# Altium integrated library Linear Technology Power Management Hot Swap Controllers.IntLib: 992 symbols (part 65 of 93)
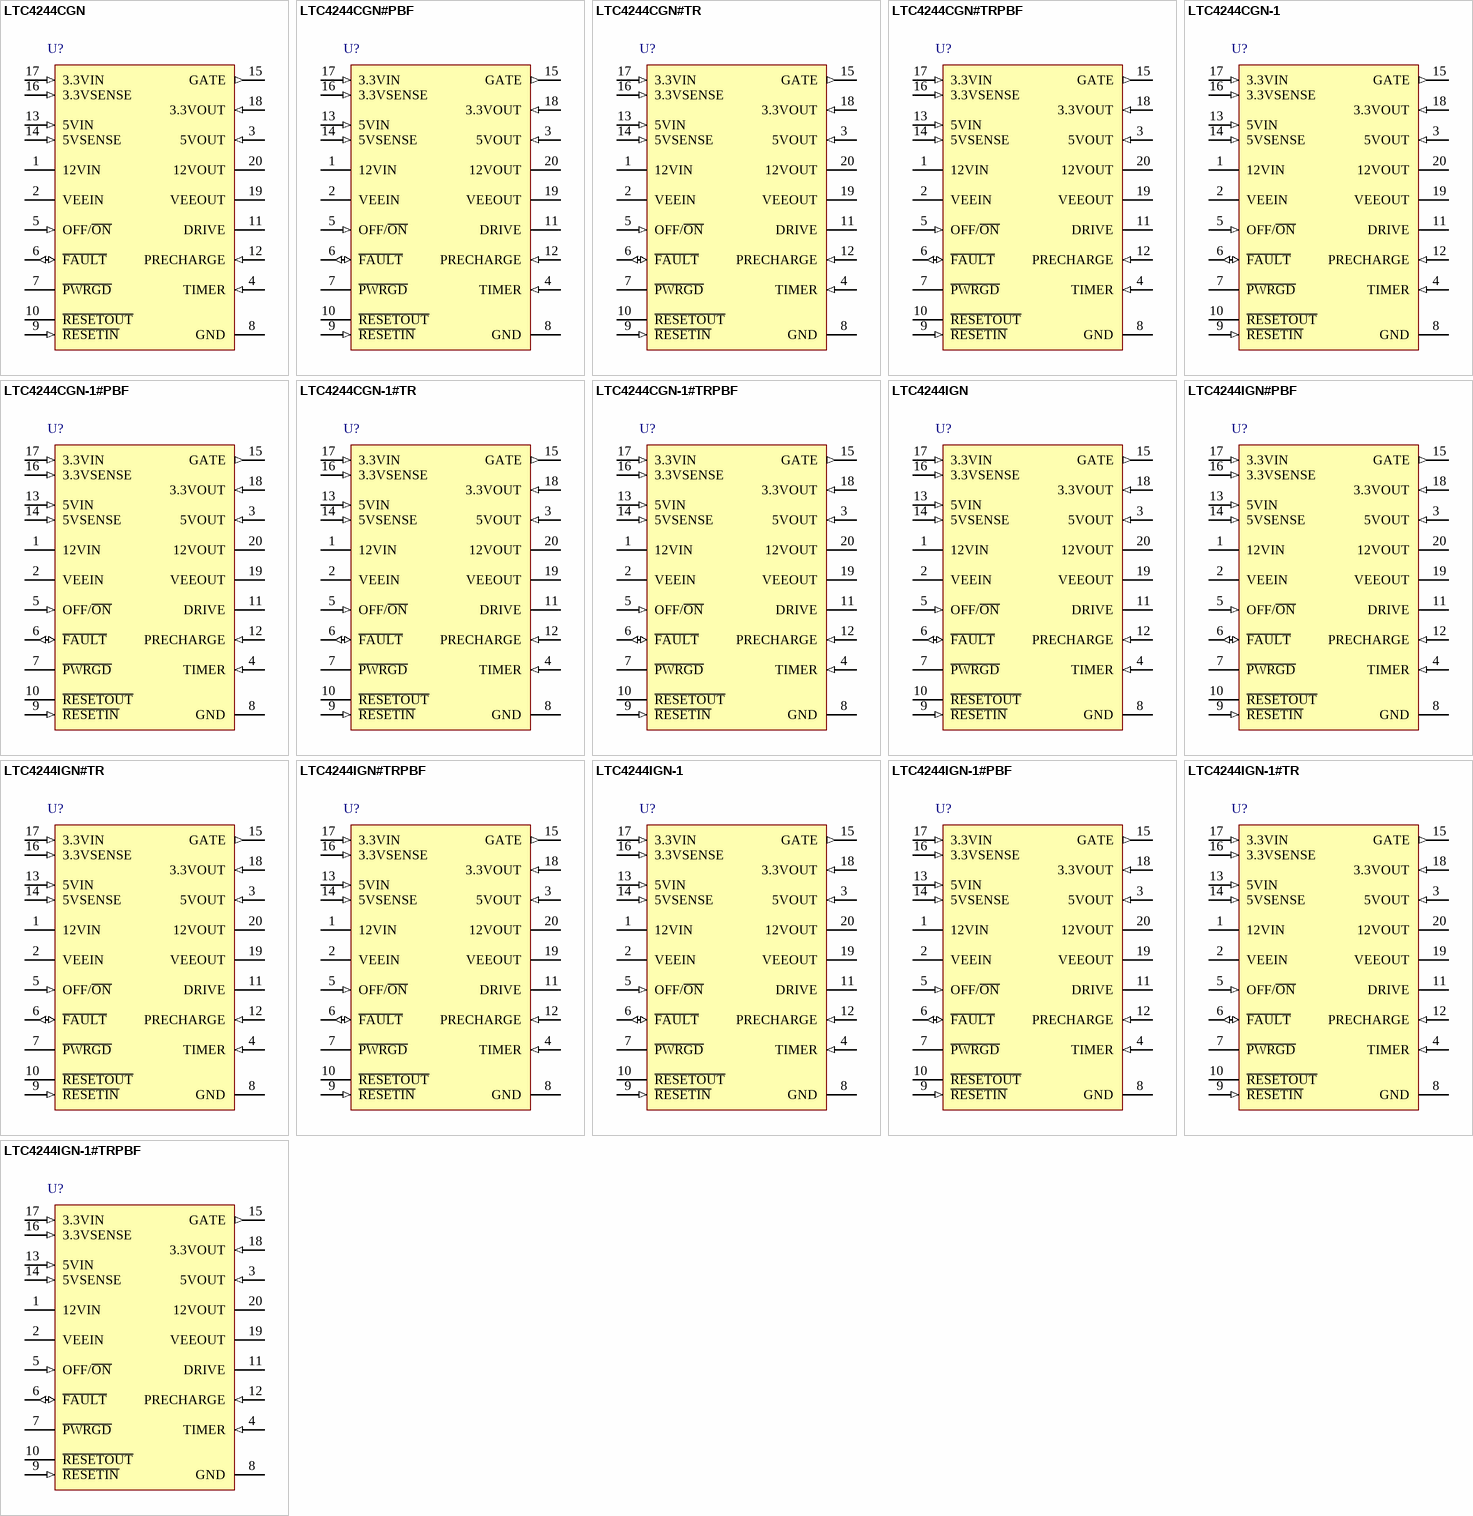
[diagram p101: symbols LTC4244CGN to LTC4244IGN-1#TRPBF]

## LTC4244IGN#TRPBF
designator U?
Rugged, Compact PCI Bus Hot Swap Controller, 3.3 V, 5 V, +/-12 V Vin, 20-pin SOP (GN-20), -40 to 85 degC, Pb-Free, Tape and Reel; Manufacturer: Linear Technology; PartNumber: LTC4244IGN#TRPBF; Active Limiting: yes; Circuit Breaker Accuracy(%): 14; Circuit Breaker Threshold: 52 mV; Circuit Breakers(#): 4; Extended Temp: C, I; Fast Comparator: no; In-Rush Current: Active; PackageVersion: Rev. B, 03/2012; PackageReference: GN-20; PackageDescription: 20-Pin Plastic SSOP, Body 8.649 x 3.899 mm, Pitch 0.635 mm; Supplier 1: Digi-Key; Supplier Part Number 1: LTC4244IGN#TRPBF-ND; Fault: yes; Foldback: yes; Packing: Tape and Reel; Power Good: yes; Reset: no; RoHS: TRUE; Vin Range: 3.3 V, 5 V, +/-12 V; Mounting Technology: Surface Mount; ComponentLink1Description: Manufacturer URL; ComponentLink1URL: http://www.linear.com/; ComponentLink2Description: Datasheet; ComponentLink2URL: http://cds.linear.com/docs/en/datasheet/42441f.pdf; ComponentLink3Description: Package Specification; ComponentLink3URL: http://cds.linear.com/docs/en/packaging/05081641_B_GN20.pdf
footprint LT-GN-20_N (SOP, 20-Leads, Body 8.7x4mm, Pitch 0.635mm, IPC Medium Density)
footprint LT-GN-20_L (SOP, 20-Leads, Body 8.7x4mm, Pitch 0.635mm, IPC High Density)
footprint LT-GN-20_M (SOP, 20-Leads, Body 8.7x4mm, Pitch 0.635mm, IPC Low Density)
pins: 1 12VIN (power) "12V Supply Input. A 0.5ohm switch is connected between 12VIN and 12VOUT with a foldback current limit. An undervoltage lockout circuit prevents the switches from turning on while the 12VIN pin voltage is less than 9V. 12VIN (See Datasheet)", 2 VEEIN (power) "-12V Supply Input. A 1ohm switch is connected between VEEIN and VEEOUT with a foldback current limit. An undervoltage lockout circuit prevents the switches from turning on while the VEEIN pin voltage is greater than -9.25V. (See Datasheet)", 3 5VOUT (in) "5V Output Sense. The P\W\R\G\D\ pin will not pull low until the 5VOUT pin voltage exceeds 4.61V. A 200ohm active pull-down discharges 5VOUT to ground when the power switches are turned off.", 4 TIMER (in) "Current Fault Inhibit Timing Input and Auxiliary VCC. Connect a capacitor from TIMER to GND. When the LTC4244 is turned on, a 21uA pull-up current source is connected to TIMER. Current limit faults will be ignored until the (See Datasheet)", 5 OFF/~{ON} (in) "Digital Input. Connect the CPCI BD_SEL# signal to the OFF/O\N\ pin. When the OFF/O\N\ pin is pulled low, the GATE pin is pulled high by a 67uA current source and the internal 12V and -12V switches are turned on. When the (See Datasheet)", 6 ~{FAULT} (io) "Open-Drain Digital I/O. F\A\U\L\T\ is pulled low when a current limit fault is detected. Current limit faults are ignored until the voltage at the TIMER pin is within 1.6V of 12VIN. Once the TIMER cycle is complete, (See Datasheet)", 7 ~{PWRGD} (oc) "Open-Drain Digital Power Good Output. Connect the CPCI HEALTHY# signal to the P\W\R\G\D\ pin. P\W\R\G\D\ remains low while V12VOUT >= 11.1V, V3.3VOUT >= 2.9V, V5VOUT >= 4.61V, and VEEOUT=< -11.1V. When any of the supplies (See Datasheet)", 8 GND (power) "Device Ground.", 9 ~{RESETIN} (in) "Digital Input. Connect the CPCI PCI_RST# signal to the R\E\S\E\T\I\N\ pin. Pulling the R\E\S\E\T\I\N\ pin low will cause R\E\S\E\T\O\U\T\ to pull low. R\E\S\E\T\O\U\T\ will also pull low when P\W\R\G\D\ is high.", 10 ~{RESETOUT} (oc) "Open-Drain Digital Output. Connect the CPCI_LOCAL_RST# signal to the R\E\S\E\T\O\U\T\ pin. R\E\S\E\T\O\U\T\ is the logical combination of the R\E\S\E\T\I\N\ and P\W\R\G\D\.", 11 DRIVE (oc) "Precharge Base Drive Output. Provides base drive for an external NPN emitter-follower that in turn biases the PRECHARGE node.", 12 PRECHARGE (in) "Precharge Monitor Input. An internal error amplifier servos the DRIVE pin voltage to keep the PRECHARGE node at 1V. See Applications Information for generating voltages other than 1V. If not used, tie the PRECHARGE pin to (See Datasheet)", 13 5VIN (in) "5V Supply Sense Input. An undervoltage lockout circuit prevents the switches from turning on when the voltage at the 5VIN pin is less than 4.25V.", 14 5VSENSE (in) "5V Current Limit Sense. With a sense resistor placed in the supply path between 5VIN and 5VSENSE, the GATE pin voltage will be adjusted to maintain a constant 51mV across the sense resistor and a constant current through the (See Datasheet)", 15 GATE (out) "High Side Gate Drive for the External 3.3V and 5V N-Channel Pass Transistors. An external series RC network is required for current limit loop compensation and setting the minimum ramp-up time. During power-up, the slope of (See Datasheet)", 16 3.3VSENSE (in) "3.3V Current Limit Sense. With a sense resistor placed in the supply path between 3.3VIN and 3.3VSENSE, the GATE pin voltage will be adjusted to maintain a constant 51mV across the sense resistor and a constant current (See Datasheet)", 17 3.3VIN (in) "3.3V Supply Sense Input. An undervoltage lockout circuit prevents the switches from turning on when the voltage at the 3.3VIN pin is less than 2.5V. If no 3.3V input supply is available, short the 3.3VIN pin to the 5VIN pin.", 18 3.3VOUT (in) "Analog Input Used to Monitor the 3.3V Output Supply Voltage. The P\W\R\G\D\ pin cannot pull low until the 3.3VOUT pin voltage exceeds 2.9V. If no 3.3V input supply is available, tie the 3.3VOUT pin to the 5VOUT pin. A 200ohm (See Datasheet)", 19 VEEOUT (power) "12V Supply Output. A 1ohm switch is connected between VEEIN and VEEOUT. VEEOUT must be less than -11.1V before the P\W\R\G\D\ pin pulls low. The VEEOUT power good comparator is disabled for the LTC4244-1. A390ohm active (See Datasheet)", 20 12VOUT (power) "12V Supply Output. A 0.5ohm switch is connected between 12VIN and 12VOUT. 12VOUT must exceed 11.1V before the P\W\R\G\D\ pin can pull low. A 440ohm active pull-down discharges 12VOUT to ground when the power switches are (See Datasheet)"

## LTC4244IGN-1
designator U?
Rugged, Compact PCI Bus Hot Swap Controller, 3.3 V, 5 V, +/-12 V Vin, 20-pin SOP (GN-20), -40 to 85 degC; Manufacturer: Linear Technology; PartNumber: LTC4244IGN-1; Active Limiting: yes; Circuit Breaker Accuracy(%): 14; Circuit Breaker Threshold: 52 mV; Circuit Breakers(#): 4; Extended Temp: C, I; Fast Comparator: no; In-Rush Current: Active; PackageVersion: Rev. B, 03/2012; PackageReference: GN-20; PackageDescription: 20-Pin Plastic SSOP, Body 8.649 x 3.899 mm, Pitch 0.635 mm; Supplier 1: Digi-Key; Supplier Part Number 1: LTC4244IGN-1-ND; Fault: yes; Foldback: yes; Power Good: yes; Reset: no; RoHS: FALSE; Vin Range: 3.3 V, 5 V, +/-12 V; Mounting Technology: Surface Mount; ComponentLink1Description: Manufacturer URL; ComponentLink1URL: http://www.linear.com/; ComponentLink2Description: Datasheet; ComponentLink2URL: http://cds.linear.com/docs/en/datasheet/42441f.pdf; ComponentLink3Description: Package Specification; ComponentLink3URL: http://cds.linear.com/docs/en/packaging/05081641_B_GN20.pdf
footprint LT-GN-20_N (SOP, 20-Leads, Body 8.7x4mm, Pitch 0.635mm, IPC Medium Density)
footprint LT-GN-20_L (SOP, 20-Leads, Body 8.7x4mm, Pitch 0.635mm, IPC High Density)
footprint LT-GN-20_M (SOP, 20-Leads, Body 8.7x4mm, Pitch 0.635mm, IPC Low Density)
pins: 1 12VIN (power) "12V Supply Input. A 0.5ohm switch is connected between 12VIN and 12VOUT with a foldback current limit. An undervoltage lockout circuit prevents the switches from turning on while the 12VIN pin voltage is less than 9V. 12VIN (See Datasheet)", 2 VEEIN (power) "-12V Supply Input. A 1ohm switch is connected between VEEIN and VEEOUT with a foldback current limit. An undervoltage lockout circuit prevents the switches from turning on while the VEEIN pin voltage is greater than -9.25V. (See Datasheet)", 3 5VOUT (in) "5V Output Sense. The P\W\R\G\D\ pin will not pull low until the 5VOUT pin voltage exceeds 4.61V. A 200ohm active pull-down discharges 5VOUT to ground when the power switches are turned off.", 4 TIMER (in) "Current Fault Inhibit Timing Input and Auxiliary VCC. Connect a capacitor from TIMER to GND. When the LTC4244 is turned on, a 21uA pull-up current source is connected to TIMER. Current limit faults will be ignored until the (See Datasheet)", 5 OFF/~{ON} (in) "Digital Input. Connect the CPCI BD_SEL# signal to the OFF/O\N\ pin. When the OFF/O\N\ pin is pulled low, the GATE pin is pulled high by a 67uA current source and the internal 12V and -12V switches are turned on. When the (See Datasheet)", 6 ~{FAULT} (io) "Open-Drain Digital I/O. F\A\U\L\T\ is pulled low when a current limit fault is detected. Current limit faults are ignored until the voltage at the TIMER pin is within 1.6V of 12VIN. Once the TIMER cycle is complete, (See Datasheet)", 7 ~{PWRGD} (oc) "Open-Drain Digital Power Good Output. Connect the CPCI HEALTHY# signal to the P\W\R\G\D\ pin. P\W\R\G\D\ remains low while V12VOUT >= 11.1V, V3.3VOUT >= 2.9V, V5VOUT >= 4.61V, and VEEOUT=< -11.1V. When any of the supplies (See Datasheet)", 8 GND (power) "Device Ground.", 9 ~{RESETIN} (in) "Digital Input. Connect the CPCI PCI_RST# signal to the R\E\S\E\T\I\N\ pin. Pulling the R\E\S\E\T\I\N\ pin low will cause R\E\S\E\T\O\U\T\ to pull low. R\E\S\E\T\O\U\T\ will also pull low when P\W\R\G\D\ is high.", 10 ~{RESETOUT} (oc) "Open-Drain Digital Output. Connect the CPCI_LOCAL_RST# signal to the R\E\S\E\T\O\U\T\ pin. R\E\S\E\T\O\U\T\ is the logical combination of the R\E\S\E\T\I\N\ and P\W\R\G\D\.", 11 DRIVE (oc) "Precharge Base Drive Output. Provides base drive for an external NPN emitter-follower that in turn biases the PRECHARGE node.", 12 PRECHARGE (in) "Precharge Monitor Input. An internal error amplifier servos the DRIVE pin voltage to keep the PRECHARGE node at 1V. See Applications Information for generating voltages other than 1V. If not used, tie the PRECHARGE pin to (See Datasheet)", 13 5VIN (in) "5V Supply Sense Input. An undervoltage lockout circuit prevents the switches from turning on when the voltage at the 5VIN pin is less than 4.25V.", 14 5VSENSE (in) "5V Current Limit Sense. With a sense resistor placed in the supply path between 5VIN and 5VSENSE, the GATE pin voltage will be adjusted to maintain a constant 51mV across the sense resistor and a constant current through the (See Datasheet)", 15 GATE (out) "High Side Gate Drive for the External 3.3V and 5V N-Channel Pass Transistors. An external series RC network is required for current limit loop compensation and setting the minimum ramp-up time. During power-up, the slope of (See Datasheet)", 16 3.3VSENSE (in) "3.3V Current Limit Sense. With a sense resistor placed in the supply path between 3.3VIN and 3.3VSENSE, the GATE pin voltage will be adjusted to maintain a constant 51mV across the sense resistor and a constant current (See Datasheet)", 17 3.3VIN (in) "3.3V Supply Sense Input. An undervoltage lockout circuit prevents the switches from turning on when the voltage at the 3.3VIN pin is less than 2.5V. If no 3.3V input supply is available, short the 3.3VIN pin to the 5VIN pin.", 18 3.3VOUT (in) "Analog Input Used to Monitor the 3.3V Output Supply Voltage. The P\W\R\G\D\ pin cannot pull low until the 3.3VOUT pin voltage exceeds 2.9V. If no 3.3V input supply is available, tie the 3.3VOUT pin to the 5VOUT pin. A 200ohm (See Datasheet)", 19 VEEOUT (power) "12V Supply Output. A 1ohm switch is connected between VEEIN and VEEOUT. VEEOUT must be less than -11.1V before the P\W\R\G\D\ pin pulls low. The VEEOUT power good comparator is disabled for the LTC4244-1. A390ohm active (See Datasheet)", 20 12VOUT (power) "12V Supply Output. A 0.5ohm switch is connected between 12VIN and 12VOUT. 12VOUT must exceed 11.1V before the P\W\R\G\D\ pin can pull low. A 440ohm active pull-down discharges 12VOUT to ground when the power switches are (See Datasheet)"

## LTC4244IGN-1#PBF
designator U?
Rugged, Compact PCI Bus Hot Swap Controller, 3.3 V, 5 V, +/-12 V Vin, 20-pin SOP (GN-20), -40 to 85 degC, Pb-Free; Manufacturer: Linear Technology; PartNumber: LTC4244IGN-1#PBF; Active Limiting: yes; Circuit Breaker Accuracy(%): 14; Circuit Breaker Threshold: 52 mV; Circuit Breakers(#): 4; Extended Temp: C, I; Fast Comparator: no; In-Rush Current: Active; PackageVersion: Rev. B, 03/2012; PackageReference: GN-20; PackageDescription: 20-Pin Plastic SSOP, Body 8.649 x 3.899 mm, Pitch 0.635 mm; Supplier 1: Digi-Key; Supplier Part Number 1: LTC4244IGN-1#PBF-ND; Supplier 2: Newark; Supplier Part Number 2: 56M8929; Fault: yes; Foldback: yes; Power Good: yes; Reset: no; RoHS: TRUE; Vin Range: 3.3 V, 5 V, +/-12 V; Mounting Technology: Surface Mount; ComponentLink1Description: Manufacturer URL; ComponentLink1URL: http://www.linear.com/; ComponentLink2Description: Datasheet; ComponentLink2URL: http://cds.linear.com/docs/en/datasheet/42441f.pdf; ComponentLink3Description: Package Specification; ComponentLink3URL: http://cds.linear.com/docs/en/packaging/05081641_B_GN20.pdf
footprint LT-GN-20_N (SOP, 20-Leads, Body 8.7x4mm, Pitch 0.635mm, IPC Medium Density)
footprint LT-GN-20_L (SOP, 20-Leads, Body 8.7x4mm, Pitch 0.635mm, IPC High Density)
footprint LT-GN-20_M (SOP, 20-Leads, Body 8.7x4mm, Pitch 0.635mm, IPC Low Density)
pins: 1 12VIN (power) "12V Supply Input. A 0.5ohm switch is connected between 12VIN and 12VOUT with a foldback current limit. An undervoltage lockout circuit prevents the switches from turning on while the 12VIN pin voltage is less than 9V. 12VIN (See Datasheet)", 2 VEEIN (power) "-12V Supply Input. A 1ohm switch is connected between VEEIN and VEEOUT with a foldback current limit. An undervoltage lockout circuit prevents the switches from turning on while the VEEIN pin voltage is greater than -9.25V. (See Datasheet)", 3 5VOUT (in) "5V Output Sense. The P\W\R\G\D\ pin will not pull low until the 5VOUT pin voltage exceeds 4.61V. A 200ohm active pull-down discharges 5VOUT to ground when the power switches are turned off.", 4 TIMER (in) "Current Fault Inhibit Timing Input and Auxiliary VCC. Connect a capacitor from TIMER to GND. When the LTC4244 is turned on, a 21uA pull-up current source is connected to TIMER. Current limit faults will be ignored until the (See Datasheet)", 5 OFF/~{ON} (in) "Digital Input. Connect the CPCI BD_SEL# signal to the OFF/O\N\ pin. When the OFF/O\N\ pin is pulled low, the GATE pin is pulled high by a 67uA current source and the internal 12V and -12V switches are turned on. When the (See Datasheet)", 6 ~{FAULT} (io) "Open-Drain Digital I/O. F\A\U\L\T\ is pulled low when a current limit fault is detected. Current limit faults are ignored until the voltage at the TIMER pin is within 1.6V of 12VIN. Once the TIMER cycle is complete, (See Datasheet)", 7 ~{PWRGD} (oc) "Open-Drain Digital Power Good Output. Connect the CPCI HEALTHY# signal to the P\W\R\G\D\ pin. P\W\R\G\D\ remains low while V12VOUT >= 11.1V, V3.3VOUT >= 2.9V, V5VOUT >= 4.61V, and VEEOUT=< -11.1V. When any of the supplies (See Datasheet)", 8 GND (power) "Device Ground.", 9 ~{RESETIN} (in) "Digital Input. Connect the CPCI PCI_RST# signal to the R\E\S\E\T\I\N\ pin. Pulling the R\E\S\E\T\I\N\ pin low will cause R\E\S\E\T\O\U\T\ to pull low. R\E\S\E\T\O\U\T\ will also pull low when P\W\R\G\D\ is high.", 10 ~{RESETOUT} (oc) "Open-Drain Digital Output. Connect the CPCI_LOCAL_RST# signal to the R\E\S\E\T\O\U\T\ pin. R\E\S\E\T\O\U\T\ is the logical combination of the R\E\S\E\T\I\N\ and P\W\R\G\D\.", 11 DRIVE (oc) "Precharge Base Drive Output. Provides base drive for an external NPN emitter-follower that in turn biases the PRECHARGE node.", 12 PRECHARGE (in) "Precharge Monitor Input. An internal error amplifier servos the DRIVE pin voltage to keep the PRECHARGE node at 1V. See Applications Information for generating voltages other than 1V. If not used, tie the PRECHARGE pin to (See Datasheet)", 13 5VIN (in) "5V Supply Sense Input. An undervoltage lockout circuit prevents the switches from turning on when the voltage at the 5VIN pin is less than 4.25V.", 14 5VSENSE (in) "5V Current Limit Sense. With a sense resistor placed in the supply path between 5VIN and 5VSENSE, the GATE pin voltage will be adjusted to maintain a constant 51mV across the sense resistor and a constant current through the (See Datasheet)", 15 GATE (out) "High Side Gate Drive for the External 3.3V and 5V N-Channel Pass Transistors. An external series RC network is required for current limit loop compensation and setting the minimum ramp-up time. During power-up, the slope of (See Datasheet)", 16 3.3VSENSE (in) "3.3V Current Limit Sense. With a sense resistor placed in the supply path between 3.3VIN and 3.3VSENSE, the GATE pin voltage will be adjusted to maintain a constant 51mV across the sense resistor and a constant current (See Datasheet)", 17 3.3VIN (in) "3.3V Supply Sense Input. An undervoltage lockout circuit prevents the switches from turning on when the voltage at the 3.3VIN pin is less than 2.5V. If no 3.3V input supply is available, short the 3.3VIN pin to the 5VIN pin.", 18 3.3VOUT (in) "Analog Input Used to Monitor the 3.3V Output Supply Voltage. The P\W\R\G\D\ pin cannot pull low until the 3.3VOUT pin voltage exceeds 2.9V. If no 3.3V input supply is available, tie the 3.3VOUT pin to the 5VOUT pin. A 200ohm (See Datasheet)", 19 VEEOUT (power) "12V Supply Output. A 1ohm switch is connected between VEEIN and VEEOUT. VEEOUT must be less than -11.1V before the P\W\R\G\D\ pin pulls low. The VEEOUT power good comparator is disabled for the LTC4244-1. A390ohm active (See Datasheet)", 20 12VOUT (power) "12V Supply Output. A 0.5ohm switch is connected between 12VIN and 12VOUT. 12VOUT must exceed 11.1V before the P\W\R\G\D\ pin can pull low. A 440ohm active pull-down discharges 12VOUT to ground when the power switches are (See Datasheet)"

## LTC4244IGN-1#TR
designator U?
Rugged, Compact PCI Bus Hot Swap Controller, 3.3 V, 5 V, +/-12 V Vin, 20-pin SOP (GN-20), -40 to 85 degC, Tape and Reel; Manufacturer: Linear Technology; PartNumber: LTC4244IGN-1#TR; Active Limiting: yes; Circuit Breaker Accuracy(%): 14; Circuit Breaker Threshold: 52 mV; Circuit Breakers(#): 4; Extended Temp: C, I; Fast Comparator: no; In-Rush Current: Active; PackageVersion: Rev. B, 03/2012; PackageReference: GN-20; PackageDescription: 20-Pin Plastic SSOP, Body 8.649 x 3.899 mm, Pitch 0.635 mm; Supplier 1: Digi-Key; Supplier Part Number 1: LTC4244IGN-1#TR-ND; Fault: yes; Foldback: yes; Packing: Tape and Reel; Power Good: yes; Reset: no; RoHS: FALSE; Vin Range: 3.3 V, 5 V, +/-12 V; Mounting Technology: Surface Mount; ComponentLink1Description: Manufacturer URL; ComponentLink1URL: http://www.linear.com/; ComponentLink2Description: Datasheet; ComponentLink2URL: http://cds.linear.com/docs/en/datasheet/42441f.pdf; ComponentLink3Description: Package Specification; ComponentLink3URL: http://cds.linear.com/docs/en/packaging/05081641_B_GN20.pdf
footprint LT-GN-20_N (SOP, 20-Leads, Body 8.7x4mm, Pitch 0.635mm, IPC Medium Density)
footprint LT-GN-20_L (SOP, 20-Leads, Body 8.7x4mm, Pitch 0.635mm, IPC High Density)
footprint LT-GN-20_M (SOP, 20-Leads, Body 8.7x4mm, Pitch 0.635mm, IPC Low Density)
pins: 1 12VIN (power) "12V Supply Input. A 0.5ohm switch is connected between 12VIN and 12VOUT with a foldback current limit. An undervoltage lockout circuit prevents the switches from turning on while the 12VIN pin voltage is less than 9V. 12VIN (See Datasheet)", 2 VEEIN (power) "-12V Supply Input. A 1ohm switch is connected between VEEIN and VEEOUT with a foldback current limit. An undervoltage lockout circuit prevents the switches from turning on while the VEEIN pin voltage is greater than -9.25V. (See Datasheet)", 3 5VOUT (in) "5V Output Sense. The P\W\R\G\D\ pin will not pull low until the 5VOUT pin voltage exceeds 4.61V. A 200ohm active pull-down discharges 5VOUT to ground when the power switches are turned off.", 4 TIMER (in) "Current Fault Inhibit Timing Input and Auxiliary VCC. Connect a capacitor from TIMER to GND. When the LTC4244 is turned on, a 21uA pull-up current source is connected to TIMER. Current limit faults will be ignored until the (See Datasheet)", 5 OFF/~{ON} (in) "Digital Input. Connect the CPCI BD_SEL# signal to the OFF/O\N\ pin. When the OFF/O\N\ pin is pulled low, the GATE pin is pulled high by a 67uA current source and the internal 12V and -12V switches are turned on. When the (See Datasheet)", 6 ~{FAULT} (io) "Open-Drain Digital I/O. F\A\U\L\T\ is pulled low when a current limit fault is detected. Current limit faults are ignored until the voltage at the TIMER pin is within 1.6V of 12VIN. Once the TIMER cycle is complete, (See Datasheet)", 7 ~{PWRGD} (oc) "Open-Drain Digital Power Good Output. Connect the CPCI HEALTHY# signal to the P\W\R\G\D\ pin. P\W\R\G\D\ remains low while V12VOUT >= 11.1V, V3.3VOUT >= 2.9V, V5VOUT >= 4.61V, and VEEOUT=< -11.1V. When any of the supplies (See Datasheet)", 8 GND (power) "Device Ground.", 9 ~{RESETIN} (in) "Digital Input. Connect the CPCI PCI_RST# signal to the R\E\S\E\T\I\N\ pin. Pulling the R\E\S\E\T\I\N\ pin low will cause R\E\S\E\T\O\U\T\ to pull low. R\E\S\E\T\O\U\T\ will also pull low when P\W\R\G\D\ is high.", 10 ~{RESETOUT} (oc) "Open-Drain Digital Output. Connect the CPCI_LOCAL_RST# signal to the R\E\S\E\T\O\U\T\ pin. R\E\S\E\T\O\U\T\ is the logical combination of the R\E\S\E\T\I\N\ and P\W\R\G\D\.", 11 DRIVE (oc) "Precharge Base Drive Output. Provides base drive for an external NPN emitter-follower that in turn biases the PRECHARGE node.", 12 PRECHARGE (in) "Precharge Monitor Input. An internal error amplifier servos the DRIVE pin voltage to keep the PRECHARGE node at 1V. See Applications Information for generating voltages other than 1V. If not used, tie the PRECHARGE pin to (See Datasheet)", 13 5VIN (in) "5V Supply Sense Input. An undervoltage lockout circuit prevents the switches from turning on when the voltage at the 5VIN pin is less than 4.25V.", 14 5VSENSE (in) "5V Current Limit Sense. With a sense resistor placed in the supply path between 5VIN and 5VSENSE, the GATE pin voltage will be adjusted to maintain a constant 51mV across the sense resistor and a constant current through the (See Datasheet)", 15 GATE (out) "High Side Gate Drive for the External 3.3V and 5V N-Channel Pass Transistors. An external series RC network is required for current limit loop compensation and setting the minimum ramp-up time. During power-up, the slope of (See Datasheet)", 16 3.3VSENSE (in) "3.3V Current Limit Sense. With a sense resistor placed in the supply path between 3.3VIN and 3.3VSENSE, the GATE pin voltage will be adjusted to maintain a constant 51mV across the sense resistor and a constant current (See Datasheet)", 17 3.3VIN (in) "3.3V Supply Sense Input. An undervoltage lockout circuit prevents the switches from turning on when the voltage at the 3.3VIN pin is less than 2.5V. If no 3.3V input supply is available, short the 3.3VIN pin to the 5VIN pin.", 18 3.3VOUT (in) "Analog Input Used to Monitor the 3.3V Output Supply Voltage. The P\W\R\G\D\ pin cannot pull low until the 3.3VOUT pin voltage exceeds 2.9V. If no 3.3V input supply is available, tie the 3.3VOUT pin to the 5VOUT pin. A 200ohm (See Datasheet)", 19 VEEOUT (power) "12V Supply Output. A 1ohm switch is connected between VEEIN and VEEOUT. VEEOUT must be less than -11.1V before the P\W\R\G\D\ pin pulls low. The VEEOUT power good comparator is disabled for the LTC4244-1. A390ohm active (See Datasheet)", 20 12VOUT (power) "12V Supply Output. A 0.5ohm switch is connected between 12VIN and 12VOUT. 12VOUT must exceed 11.1V before the P\W\R\G\D\ pin can pull low. A 440ohm active pull-down discharges 12VOUT to ground when the power switches are (See Datasheet)"

## LTC4244IGN-1#TRPBF
designator U?
Rugged, Compact PCI Bus Hot Swap Controller, 3.3 V, 5 V, +/-12 V Vin, 20-pin SOP (GN-20), -40 to 85 degC, Pb-Free, Tape and Reel; Manufacturer: Linear Technology; PartNumber: LTC4244IGN-1#TRPBF; Active Limiting: yes; Circuit Breaker Accuracy(%): 14; Circuit Breaker Threshold: 52 mV; Circuit Breakers(#): 4; Extended Temp: C, I; Fast Comparator: no; In-Rush Current: Active; PackageVersion: Rev. B, 03/2012; PackageReference: GN-20; PackageDescription: 20-Pin Plastic SSOP, Body 8.649 x 3.899 mm, Pitch 0.635 mm; Supplier 1: Digi-Key; Supplier Part Number 1: LTC4244IGN-1#TRPBF-ND; Fault: yes; Foldback: yes; Packing: Tape and Reel; Power Good: yes; Reset: no; RoHS: TRUE; Vin Range: 3.3 V, 5 V, +/-12 V; Mounting Technology: Surface Mount; ComponentLink1Description: Manufacturer URL; ComponentLink1URL: http://www.linear.com/; ComponentLink2Description: Datasheet; ComponentLink2URL: http://cds.linear.com/docs/en/datasheet/42441f.pdf; ComponentLink3Description: Package Specification; ComponentLink3URL: http://cds.linear.com/docs/en/packaging/05081641_B_GN20.pdf
footprint LT-GN-20_N (SOP, 20-Leads, Body 8.7x4mm, Pitch 0.635mm, IPC Medium Density)
footprint LT-GN-20_L (SOP, 20-Leads, Body 8.7x4mm, Pitch 0.635mm, IPC High Density)
footprint LT-GN-20_M (SOP, 20-Leads, Body 8.7x4mm, Pitch 0.635mm, IPC Low Density)
pins: 1 12VIN (power) "12V Supply Input. A 0.5ohm switch is connected between 12VIN and 12VOUT with a foldback current limit. An undervoltage lockout circuit prevents the switches from turning on while the 12VIN pin voltage is less than 9V. 12VIN (See Datasheet)", 2 VEEIN (power) "-12V Supply Input. A 1ohm switch is connected between VEEIN and VEEOUT with a foldback current limit. An undervoltage lockout circuit prevents the switches from turning on while the VEEIN pin voltage is greater than -9.25V. (See Datasheet)", 3 5VOUT (in) "5V Output Sense. The P\W\R\G\D\ pin will not pull low until the 5VOUT pin voltage exceeds 4.61V. A 200ohm active pull-down discharges 5VOUT to ground when the power switches are turned off.", 4 TIMER (in) "Current Fault Inhibit Timing Input and Auxiliary VCC. Connect a capacitor from TIMER to GND. When the LTC4244 is turned on, a 21uA pull-up current source is connected to TIMER. Current limit faults will be ignored until the (See Datasheet)", 5 OFF/~{ON} (in) "Digital Input. Connect the CPCI BD_SEL# signal to the OFF/O\N\ pin. When the OFF/O\N\ pin is pulled low, the GATE pin is pulled high by a 67uA current source and the internal 12V and -12V switches are turned on. When the (See Datasheet)", 6 ~{FAULT} (io) "Open-Drain Digital I/O. F\A\U\L\T\ is pulled low when a current limit fault is detected. Current limit faults are ignored until the voltage at the TIMER pin is within 1.6V of 12VIN. Once the TIMER cycle is complete, (See Datasheet)", 7 ~{PWRGD} (oc) "Open-Drain Digital Power Good Output. Connect the CPCI HEALTHY# signal to the P\W\R\G\D\ pin. P\W\R\G\D\ remains low while V12VOUT >= 11.1V, V3.3VOUT >= 2.9V, V5VOUT >= 4.61V, and VEEOUT=< -11.1V. When any of the supplies (See Datasheet)", 8 GND (power) "Device Ground.", 9 ~{RESETIN} (in) "Digital Input. Connect the CPCI PCI_RST# signal to the R\E\S\E\T\I\N\ pin. Pulling the R\E\S\E\T\I\N\ pin low will cause R\E\S\E\T\O\U\T\ to pull low. R\E\S\E\T\O\U\T\ will also pull low when P\W\R\G\D\ is high.", 10 ~{RESETOUT} (oc) "Open-Drain Digital Output. Connect the CPCI_LOCAL_RST# signal to the R\E\S\E\T\O\U\T\ pin. R\E\S\E\T\O\U\T\ is the logical combination of the R\E\S\E\T\I\N\ and P\W\R\G\D\.", 11 DRIVE (oc) "Precharge Base Drive Output. Provides base drive for an external NPN emitter-follower that in turn biases the PRECHARGE node.", 12 PRECHARGE (in) "Precharge Monitor Input. An internal error amplifier servos the DRIVE pin voltage to keep the PRECHARGE node at 1V. See Applications Information for generating voltages other than 1V. If not used, tie the PRECHARGE pin to (See Datasheet)", 13 5VIN (in) "5V Supply Sense Input. An undervoltage lockout circuit prevents the switches from turning on when the voltage at the 5VIN pin is less than 4.25V.", 14 5VSENSE (in) "5V Current Limit Sense. With a sense resistor placed in the supply path between 5VIN and 5VSENSE, the GATE pin voltage will be adjusted to maintain a constant 51mV across the sense resistor and a constant current through the (See Datasheet)", 15 GATE (out) "High Side Gate Drive for the External 3.3V and 5V N-Channel Pass Transistors. An external series RC network is required for current limit loop compensation and setting the minimum ramp-up time. During power-up, the slope of (See Datasheet)", 16 3.3VSENSE (in) "3.3V Current Limit Sense. With a sense resistor placed in the supply path between 3.3VIN and 3.3VSENSE, the GATE pin voltage will be adjusted to maintain a constant 51mV across the sense resistor and a constant current (See Datasheet)", 17 3.3VIN (in) "3.3V Supply Sense Input. An undervoltage lockout circuit prevents the switches from turning on when the voltage at the 3.3VIN pin is less than 2.5V. If no 3.3V input supply is available, short the 3.3VIN pin to the 5VIN pin.", 18 3.3VOUT (in) "Analog Input Used to Monitor the 3.3V Output Supply Voltage. The P\W\R\G\D\ pin cannot pull low until the 3.3VOUT pin voltage exceeds 2.9V. If no 3.3V input supply is available, tie the 3.3VOUT pin to the 5VOUT pin. A 200ohm (See Datasheet)", 19 VEEOUT (power) "12V Supply Output. A 1ohm switch is connected between VEEIN and VEEOUT. VEEOUT must be less than -11.1V before the P\W\R\G\D\ pin pulls low. The VEEOUT power good comparator is disabled for the LTC4244-1. A390ohm active (See Datasheet)", 20 12VOUT (power) "12V Supply Output. A 0.5ohm switch is connected between 12VIN and 12VOUT. 12VOUT must exceed 11.1V before the P\W\R\G\D\ pin can pull low. A 440ohm active pull-down discharges 12VOUT to ground when the power switches are (See Datasheet)"

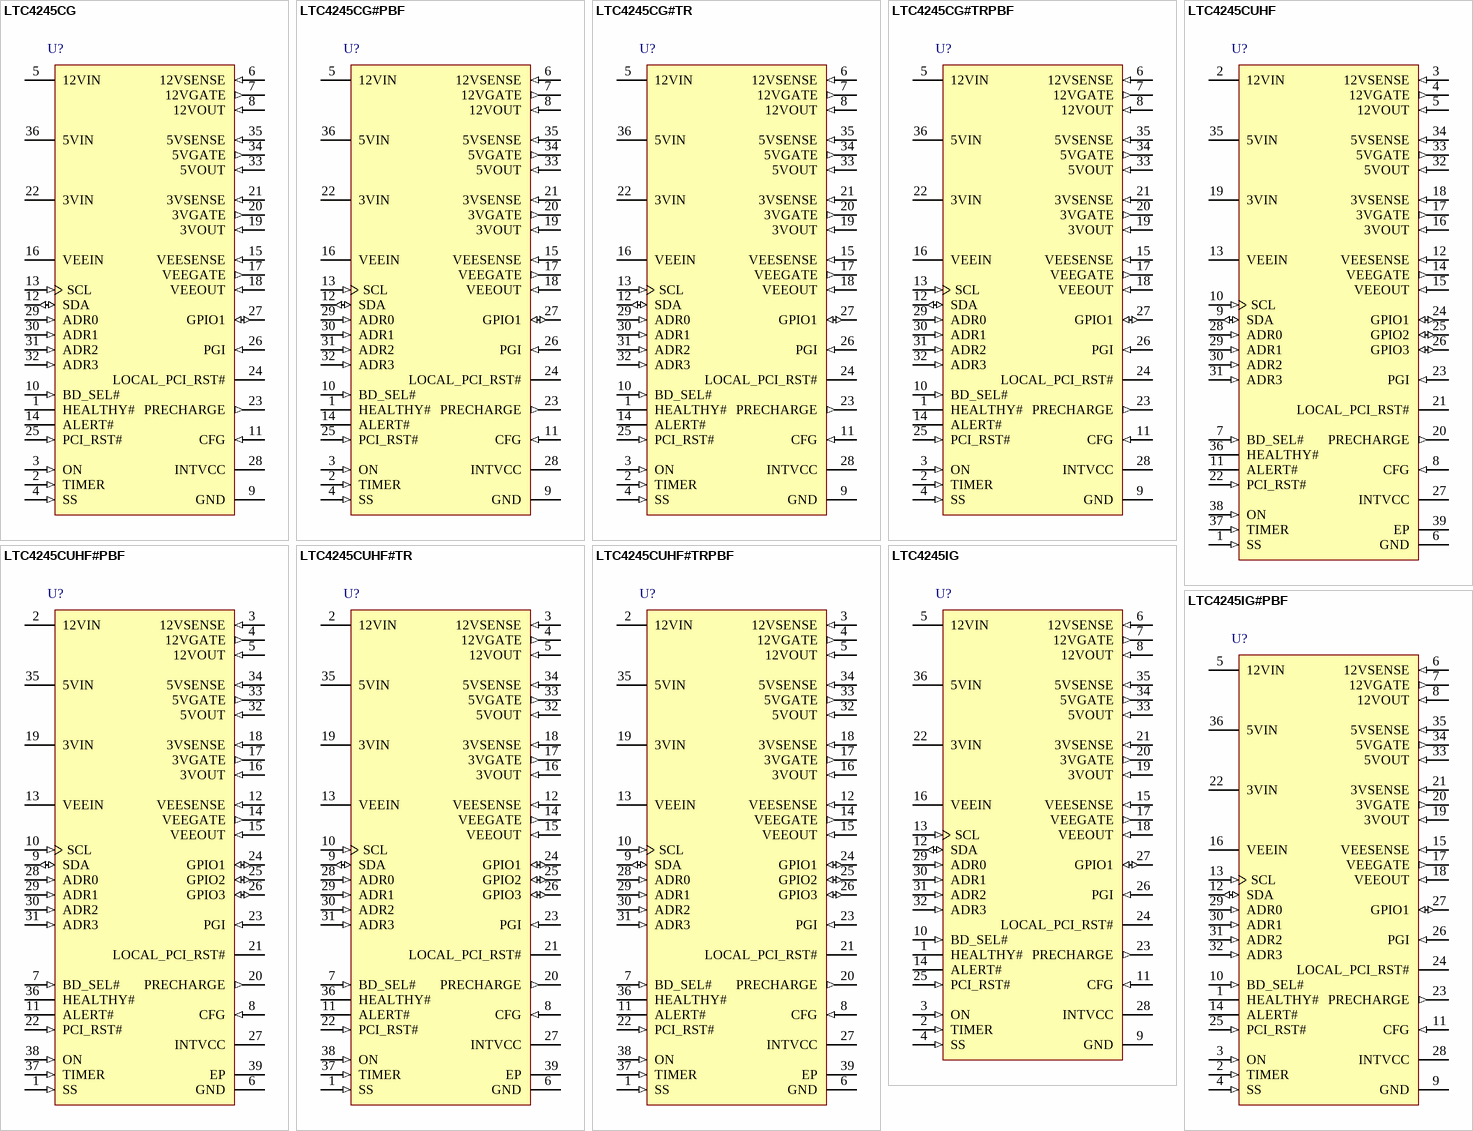
[diagram p27: symbols LTC4245CG to LTC4245IG#PBF]

## LTC4245CG
designator U?
Multiple Supply Hot Swap Controller with I2C Compatible Monitoring, 3.3 V, 5 V, +/-12 V Vin, 36-pin SOP (G-36), 0 to 70 degC; Manufacturer: Linear Technology; PartNumber: LTC4245CG; Active Limiting: yes; ADC: 8-bit; Circuit Breaker Accuracy(%): 10; Circuit Breaker Threshold: 25 mV (3.3,5), 50 mV (+/-12); Circuit Breakers(#): 4; Extended Temp: C, I; Fast Comparator: no; In-Rush Current: Active; Vin Range: 3.3, 5, +/-12 or 3.3, 12, 3.3 aux; DatasheetVersion: Rev. A; PackageReference: G-36; PackageDescription: 36-Pin Plastic SSOP, Body 12.8 x 5.3 mm, Pitch 0.65 mm; Fault: yes; Foldback: yes; Power Good: no; Reset: no; RoHS: FALSE; Mounting Technology: Surface Mount; ComponentLink1Description: Manufacturer URL; ComponentLink1URL: http://www.linear.com/; ComponentLink2Description: Datasheet; ComponentLink2URL: http://cds.linear.com/docs/en/datasheet/4245fa.pdf; ComponentLink3Description: Package Specification; ComponentLink3URL: http://cds.linear.com/docs/en/packaging/SSOP_36_05-08-1640.pdf
footprint LT-G-36_N (SOP, 36-Leads, Body 13.1x5.6mm, Pitch 0.65mm, IPC Medium Density)
footprint LT-G-36_L (SOP, 36-Leads, Body 13.1x5.6mm, Pitch 0.65mm, IPC High Density)
footprint LT-G-36_M (SOP, 36-Leads, Body 13.1x5.6mm, Pitch 0.65mm, IPC Low Density)
pins: 1 HEALTHY# (hiz) "Board Power Status Output. This pin is pulled low by an open-drain output when all supply outputs are above their power bad thresholds and when all external N-channel MOSFETs are on. When any supply output falls below its (See Datasheet)", 2 TIMER (in) "Timer Input. A capacitor between this pin and ground sets the duration of the start-up, PGI and auto-retry timing cycles to be 23.3ms/uF, 233ms/uF and 1.17s/uF respectively. A timing cycle consists of TIMER being charged to (See Datasheet)", 3 ON (in) "On Control Input. A rising edge turns on the external N-channel MOSFETs and a falling edge turns them off. This pin is also used to configure the state of the FET On control bits (and hence the external FETs) in the ON (See Datasheet)", 4 SS (in) "Soft-Start Input. Connect a capacitor between this pin and ground to set the rate of increase of current limit during start-up for dI/dt limited inrush current. When an external MOSFET is turned on, a 20uA pull-up current (See Datasheet)", 5 12VIN (power) "12V Supply, Current Sense and ADC Input. The internal low voltage supply VCC is generated from 12VIN. An undervoltage lockout circuit, with 38mV hysteresis, prevents any external MOSFET from turning on when this pin is below (See Datasheet)", 6 12VSENSE (in) "12V Supply Current Sense and ADC Input. Connect this pin to the output of the 12V current sense resistor. The current limit circuit controls the 12VGATE pin to limit the sense voltage between the 12VIN and 12VSENSE pins to (See Datasheet)", 7 12VGATE (out) "Gate Drive for 12V Supply External N-Channel MOSFET. An internal 20uA current source charges the gate of the external N-channel MOSFET. An internal clamp limits the gate voltage to 6.2V above 12VOUT. During turn-off a 1.3mA (See Datasheet)", 8 12VOUT (in) "12V Gate Drive Return; Foldback, ADC and Power Bad Input. Connect this pin to the source of the 12V supply external N-channel MOSFET switch for gate drive return. Power is considered bad if this pin drops below 11.1V. The (See Datasheet)", 9 GND (power) "Device Ground.", 10 BD_SEL# (in) "Board Present Input. Ground this pin to enable the N-channel MOSFETs to turn on. When this pin is high, the MOSFETs are off. An internal 10uA current source pulls up this pin to INTVCC. Transitions on this pin will be (See Datasheet)", 11 CFG (in) "Supply Confi guration Three-State Input. When this pin is grounded, all four supply inputs must satisfy their undervoltage lockout levels to allow the external MOSFETs to turn on. Floating this pin disables VEE undervoltage (See Datasheet)", 12 SDA (io) "Serial Bus Data Input and Output. This is a high impedance input when address, command or data bits are shifted in. It is an open-drain output when sending data back to the master controller or acknowledging a write (See Datasheet)", 13 SCL (in) "Serial Bus Clock Input. Data at the SDA pin is shifted in or out on rising edges of SCL. This is a high impedance pin that is generally driven by an open-collector output from a master controller.", 14 ALERT# (oc) "Fault Alert Output. Open-drain logic output that can be pulled to ground, when a fault occurs, to alert the host controller. A fault alert is enabled by the ALERT register. This device is compatible with SMBus alert protocol.(See Datasheet)", 15 VEESENSE (in) "-12V Supply Current Sense and ADC Input. Connect this pin to the output of the -12V current sense resistor. The current limit circuit controls the VEEGATE pin to limit the sense voltage between the VEESENSE and VEEIN pins to (See Datasheet)", 16 VEEIN (power) "-12V Supply, Current Sense and ADC Input. An undervoltage lockout circuit, with 38mV hysteresis, prevents any external MOSFET from turning on when this pin is above -10.5V. The VEEIN undervoltage lockout can be disabled by (See Datasheet)", 17 VEEGATE (out) "Gate Drive for -12V Supply External N-Channel MOSFET. An internal 20uA current source charges the gate of the external N-channel MOSFET. An internal clamp limits the gate voltage to 6.2V above VEEIN. During turn-off, a 3.5mA (See Datasheet)", 18 VEEOUT (in) "-12V Supply Foldback, ADC and Power Bad Input. Connect this pin to the drain of the -H497512V supply external N-channel MOSFET switch. Power is considered bad if this pin rises above -11.1V. The comparator on this pin has a (See Datasheet)", 19 3VOUT (in) "3.3V Gate Drive Return; Foldback, ADC and Power Bad Input. Connect this pin to the source of the 3.3V supply external N-channel MOSFET switch for gate drive return. Power is considered bad if this pin drops below 2.9V. The (See Datasheet)", 20 3VGATE (out) "Gate Drive for 3.3V Supply External N-Channel MOSFET. An internal 20uA current source charges the gate of the external N-channel MOSFET. An internal clamp limits the gate voltage to 6.2V above 3VOUT. During turn-off a 1.3mA (See Datasheet)", 21 3VSENSE (in) "3.3V Supply Current Sense and ADC Input. Connect this pin to the output of the 3.3V current sense resistor. The current limit circuit controls the 3VGATE pin to limit the sense voltage between the 3VIN and 3VSENSE pins to (See Datasheet)", 22 3VIN (power) "3.3V Supply, Current Sense and ADC Input. The 1V precharge circuit draws its power and reference voltage from 3VIN. An undervoltage lockout circuit, with 10mV hysteresis, prevents any external MOSFET from turning on when (See Datasheet)", 23 PRECHARGE (out) "Bus Precharge Output. This pin can source 70mA at 1V as soon as 3VIN is powered-up. Leave it open if unused.", 24 LOCAL_PCI_RST# (oc) "Reset Output. This pin is pulled low by an open-drain output whenever HEALTHY# is high or when the PCI_RST# input is low. Tie to ground if unused.", 25 PCI_RST# (in) "Reset Input. Pulling this pin low causes LOCAL_PCI_RST# to pull low. When high, LOCAL_PCI_RST# is the logical inverse of HEALTHY#. Tie to INTVCC if unused.", 26 PGI (in) "Power Good Input. Tie this pin to the R\E\S\E\T\ output of an external supply monitor or power good output of a DC/DC converter. When all supplies have been turned on, a timing cycle is started at the end of which the PGI (See Datasheet)", 27 GPIO1 (io) "General Purpose Input/Output and ADC Input. Open-drain logic outputs and logic inputs. Any one of the three pins can be multiplexed to the GPIO channel of the internal ADC. GPIO1 has a state change fault associated with it. (See Datasheet)", 28 INTVCC (power) "Internal Low Voltage Supply Decoupling Output. Connect a 0.1uF capacitor from this pin to ground. When this pin falls below 3.8V, the internal registers are reset.", 29 ADR0 (in) "Serial Bus Address Inputs. ADR0 and ADR1 are two-state inputs; ADR2 and ADR3 are threestate inputs. Tying these pins to ground, open or INTVCC configures one of 32 possible addresses. The addressing scheme is compatible (See Datasheet)", 30 ADR1 (in) "Serial Bus Address Inputs. ADR0 and ADR1 are two-state inputs; ADR2 and ADR3 are threestate inputs. Tying these pins to ground, open or INTVCC configures one of 32 possible addresses. The addressing scheme is compatible (See Datasheet)", 31 ADR2 (in) "Serial Bus Address Inputs. ADR0 and ADR1 are two-state inputs; ADR2 and ADR3 are threestate inputs. Tying these pins to ground, open or INTVCC configures one of 32 possible addresses. The addressing scheme is compatible (See Datasheet)", 32 ADR3 (in) "Serial Bus Address Inputs. ADR0 and ADR1 are two-state inputs; ADR2 and ADR3 are threestate inputs. Tying these pins to ground, open or INTVCC configures one of 32 possible addresses. The addressing scheme is compatible (See Datasheet)", 33 5VOUT (in) "5V Gate Drive Return; Foldback, ADC and Power Bad Input. Connect this pin to the source of the 5V supply external N-channel MOSFET switch for gate drive return. Power is considered bad if this pin drops below 4.63V or 2.9V (See Datasheet)", 34 5VGATE (out) "Gate Drive for 5V Supply External N-Channel MOSFET. An internal 20uA current source charges the gate of the external N-channel MOSFET. An internal clamp limits the gate voltage to 6.2V above 5VOUT. During turn-off a 1.3mA (See Datasheet)", 35 5VSENSE (in) "5V Supply Current Sense and ADC Input. Connect this pin to the output of the 5V current sense resistor. The current limit circuit controls the 5VGATE pin to limit the sense voltage between the 5VIN and 5VSENSE pins to 25mV (See Datasheet)", 36 5VIN (power) "5V Supply, Current Sense and ADC Input. An undervoltage lockout circuit, with 16mV or 10mV of hysteresis, prevents any external MOSFET from turning on when this pin is below 4.38V or 2.8V depending on the state of the CFG (See Datasheet)"

## LTC4245CG#PBF
designator U?
Multiple Supply Hot Swap Controller with I2C Compatible Monitoring, 3.3 V, 5 V, +/-12 V Vin, 36-pin SOP (G-36), 0 to 70 degC, Pb-Free; Manufacturer: Linear Technology; PartNumber: LTC4245CG#PBF; Active Limiting: yes; ADC: 8-bit; Circuit Breaker Accuracy(%): 10; Circuit Breaker Threshold: 25 mV (3.3,5), 50 mV (+/-12); Circuit Breakers(#): 4; Extended Temp: C, I; Fast Comparator: no; In-Rush Current: Active; Vin Range: 3.3, 5, +/-12 or 3.3, 12, 3.3 aux; DatasheetVersion: Rev. A; PackageReference: G-36; PackageDescription: 36-Pin Plastic SSOP, Body 12.8 x 5.3 mm, Pitch 0.65 mm; Supplier 1: Digi-Key; Supplier Part Number 1: LTC4245CG#PBF-ND; Fault: yes; Foldback: yes; Power Good: no; Reset: no; RoHS: TRUE; Mounting Technology: Surface Mount; ComponentLink1Description: Manufacturer URL; ComponentLink1URL: http://www.linear.com/; ComponentLink2Description: Datasheet; ComponentLink2URL: http://cds.linear.com/docs/en/datasheet/4245fa.pdf; ComponentLink3Description: Package Specification; ComponentLink3URL: http://cds.linear.com/docs/en/packaging/SSOP_36_05-08-1640.pdf
footprint LT-G-36_N (SOP, 36-Leads, Body 13.1x5.6mm, Pitch 0.65mm, IPC Medium Density)
footprint LT-G-36_L (SOP, 36-Leads, Body 13.1x5.6mm, Pitch 0.65mm, IPC High Density)
footprint LT-G-36_M (SOP, 36-Leads, Body 13.1x5.6mm, Pitch 0.65mm, IPC Low Density)
pins: 1 HEALTHY# (hiz) "Board Power Status Output. This pin is pulled low by an open-drain output when all supply outputs are above their power bad thresholds and when all external N-channel MOSFETs are on. When any supply output falls below its (See Datasheet)", 2 TIMER (in) "Timer Input. A capacitor between this pin and ground sets the duration of the start-up, PGI and auto-retry timing cycles to be 23.3ms/uF, 233ms/uF and 1.17s/uF respectively. A timing cycle consists of TIMER being charged to (See Datasheet)", 3 ON (in) "On Control Input. A rising edge turns on the external N-channel MOSFETs and a falling edge turns them off. This pin is also used to configure the state of the FET On control bits (and hence the external FETs) in the ON (See Datasheet)", 4 SS (in) "Soft-Start Input. Connect a capacitor between this pin and ground to set the rate of increase of current limit during start-up for dI/dt limited inrush current. When an external MOSFET is turned on, a 20uA pull-up current (See Datasheet)", 5 12VIN (power) "12V Supply, Current Sense and ADC Input. The internal low voltage supply VCC is generated from 12VIN. An undervoltage lockout circuit, with 38mV hysteresis, prevents any external MOSFET from turning on when this pin is below (See Datasheet)", 6 12VSENSE (in) "12V Supply Current Sense and ADC Input. Connect this pin to the output of the 12V current sense resistor. The current limit circuit controls the 12VGATE pin to limit the sense voltage between the 12VIN and 12VSENSE pins to (See Datasheet)", 7 12VGATE (out) "Gate Drive for 12V Supply External N-Channel MOSFET. An internal 20uA current source charges the gate of the external N-channel MOSFET. An internal clamp limits the gate voltage to 6.2V above 12VOUT. During turn-off a 1.3mA (See Datasheet)", 8 12VOUT (in) "12V Gate Drive Return; Foldback, ADC and Power Bad Input. Connect this pin to the source of the 12V supply external N-channel MOSFET switch for gate drive return. Power is considered bad if this pin drops below 11.1V. The (See Datasheet)", 9 GND (power) "Device Ground.", 10 BD_SEL# (in) "Board Present Input. Ground this pin to enable the N-channel MOSFETs to turn on. When this pin is high, the MOSFETs are off. An internal 10uA current source pulls up this pin to INTVCC. Transitions on this pin will be (See Datasheet)", 11 CFG (in) "Supply Confi guration Three-State Input. When this pin is grounded, all four supply inputs must satisfy their undervoltage lockout levels to allow the external MOSFETs to turn on. Floating this pin disables VEE undervoltage (See Datasheet)", 12 SDA (io) "Serial Bus Data Input and Output. This is a high impedance input when address, command or data bits are shifted in. It is an open-drain output when sending data back to the master controller or acknowledging a write (See Datasheet)", 13 SCL (in) "Serial Bus Clock Input. Data at the SDA pin is shifted in or out on rising edges of SCL. This is a high impedance pin that is generally driven by an open-collector output from a master controller.", 14 ALERT# (oc) "Fault Alert Output. Open-drain logic output that can be pulled to ground, when a fault occurs, to alert the host controller. A fault alert is enabled by the ALERT register. This device is compatible with SMBus alert protocol.(See Datasheet)", 15 VEESENSE (in) "-12V Supply Current Sense and ADC Input. Connect this pin to the output of the -12V current sense resistor. The current limit circuit controls the VEEGATE pin to limit the sense voltage between the VEESENSE and VEEIN pins to (See Datasheet)", 16 VEEIN (power) "-12V Supply, Current Sense and ADC Input. An undervoltage lockout circuit, with 38mV hysteresis, prevents any external MOSFET from turning on when this pin is above -10.5V. The VEEIN undervoltage lockout can be disabled by (See Datasheet)", 17 VEEGATE (out) "Gate Drive for -12V Supply External N-Channel MOSFET. An internal 20uA current source charges the gate of the external N-channel MOSFET. An internal clamp limits the gate voltage to 6.2V above VEEIN. During turn-off, a 3.5mA (See Datasheet)", 18 VEEOUT (in) "-12V Supply Foldback, ADC and Power Bad Input. Connect this pin to the drain of the -H497512V supply external N-channel MOSFET switch. Power is considered bad if this pin rises above -11.1V. The comparator on this pin has a (See Datasheet)", 19 3VOUT (in) "3.3V Gate Drive Return; Foldback, ADC and Power Bad Input. Connect this pin to the source of the 3.3V supply external N-channel MOSFET switch for gate drive return. Power is considered bad if this pin drops below 2.9V. The (See Datasheet)", 20 3VGATE (out) "Gate Drive for 3.3V Supply External N-Channel MOSFET. An internal 20uA current source charges the gate of the external N-channel MOSFET. An internal clamp limits the gate voltage to 6.2V above 3VOUT. During turn-off a 1.3mA (See Datasheet)", 21 3VSENSE (in) "3.3V Supply Current Sense and ADC Input. Connect this pin to the output of the 3.3V current sense resistor. The current limit circuit controls the 3VGATE pin to limit the sense voltage between the 3VIN and 3VSENSE pins to (See Datasheet)", 22 3VIN (power) "3.3V Supply, Current Sense and ADC Input. The 1V precharge circuit draws its power and reference voltage from 3VIN. An undervoltage lockout circuit, with 10mV hysteresis, prevents any external MOSFET from turning on when (See Datasheet)", 23 PRECHARGE (out) "Bus Precharge Output. This pin can source 70mA at 1V as soon as 3VIN is powered-up. Leave it open if unused.", 24 LOCAL_PCI_RST# (oc) "Reset Output. This pin is pulled low by an open-drain output whenever HEALTHY# is high or when the PCI_RST# input is low. Tie to ground if unused.", 25 PCI_RST# (in) "Reset Input. Pulling this pin low causes LOCAL_PCI_RST# to pull low. When high, LOCAL_PCI_RST# is the logical inverse of HEALTHY#. Tie to INTVCC if unused.", 26 PGI (in) "Power Good Input. Tie this pin to the R\E\S\E\T\ output of an external supply monitor or power good output of a DC/DC converter. When all supplies have been turned on, a timing cycle is started at the end of which the PGI (See Datasheet)", 27 GPIO1 (io) "General Purpose Input/Output and ADC Input. Open-drain logic outputs and logic inputs. Any one of the three pins can be multiplexed to the GPIO channel of the internal ADC. GPIO1 has a state change fault associated with it. (See Datasheet)", 28 INTVCC (power) "Internal Low Voltage Supply Decoupling Output. Connect a 0.1uF capacitor from this pin to ground. When this pin falls below 3.8V, the internal registers are reset.", 29 ADR0 (in) "Serial Bus Address Inputs. ADR0 and ADR1 are two-state inputs; ADR2 and ADR3 are threestate inputs. Tying these pins to ground, open or INTVCC configures one of 32 possible addresses. The addressing scheme is compatible (See Datasheet)", 30 ADR1 (in) "Serial Bus Address Inputs. ADR0 and ADR1 are two-state inputs; ADR2 and ADR3 are threestate inputs. Tying these pins to ground, open or INTVCC configures one of 32 possible addresses. The addressing scheme is compatible (See Datasheet)", 31 ADR2 (in) "Serial Bus Address Inputs. ADR0 and ADR1 are two-state inputs; ADR2 and ADR3 are threestate inputs. Tying these pins to ground, open or INTVCC configures one of 32 possible addresses. The addressing scheme is compatible (See Datasheet)", 32 ADR3 (in) "Serial Bus Address Inputs. ADR0 and ADR1 are two-state inputs; ADR2 and ADR3 are threestate inputs. Tying these pins to ground, open or INTVCC configures one of 32 possible addresses. The addressing scheme is compatible (See Datasheet)", 33 5VOUT (in) "5V Gate Drive Return; Foldback, ADC and Power Bad Input. Connect this pin to the source of the 5V supply external N-channel MOSFET switch for gate drive return. Power is considered bad if this pin drops below 4.63V or 2.9V (See Datasheet)", 34 5VGATE (out) "Gate Drive for 5V Supply External N-Channel MOSFET. An internal 20uA current source charges the gate of the external N-channel MOSFET. An internal clamp limits the gate voltage to 6.2V above 5VOUT. During turn-off a 1.3mA (See Datasheet)", 35 5VSENSE (in) "5V Supply Current Sense and ADC Input. Connect this pin to the output of the 5V current sense resistor. The current limit circuit controls the 5VGATE pin to limit the sense voltage between the 5VIN and 5VSENSE pins to 25mV (See Datasheet)", 36 5VIN (power) "5V Supply, Current Sense and ADC Input. An undervoltage lockout circuit, with 16mV or 10mV of hysteresis, prevents any external MOSFET from turning on when this pin is below 4.38V or 2.8V depending on the state of the CFG (See Datasheet)"